# Altium footprint library MyLibs_Mux_Demux.PcbLib: 1 footprints
Each footprint in its own frame and in the unit in brackets; x right, y up, seen from the top. Pads: shape width x height; smd on the part's side, far side on the other; paste and mask are expansions set on the pad; w line width, h text height; cw(c..) or ccw(c..) is an arc to the next point about the centre after c.
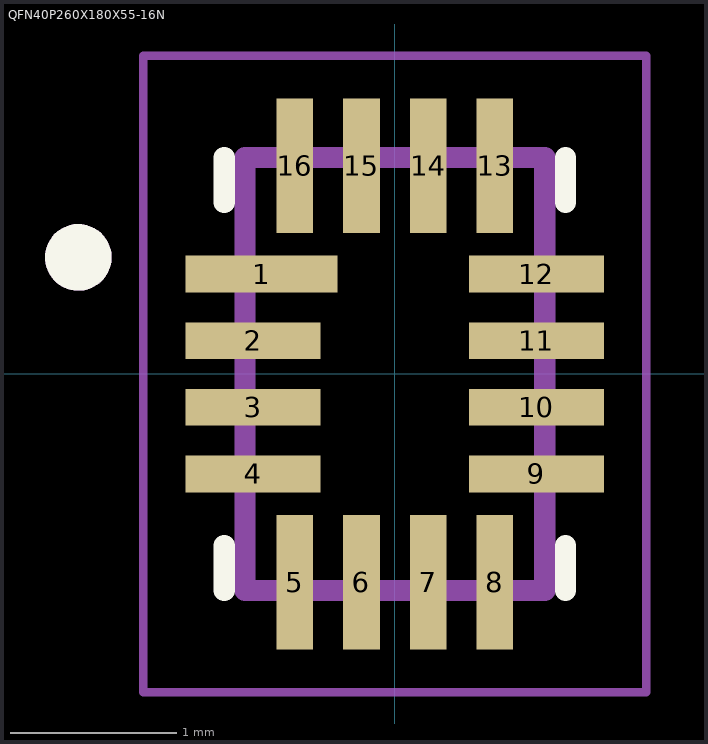
[diagram p0: the footprint, top view; thin cyan lines are the x and y axes]

## QFN40P260X180X55-16N [mm]
pads (16):
  rect 0.91x0.22 smd: 1(-0.8,0.6)
  rect 0.81x0.22 smd: 2(-0.85,0.2) 3(-0.85,-0.2) 4(-0.85,-0.6) 9(0.85,-0.6) 10(0.85,-0.2) 11(0.85,0.2) 12(0.85,0.6)
  rect 0.22x0.81 smd: 5(-0.6,-1.25) 6(-0.2,-1.25) 7(0.2,-1.25) 8(0.6,-1.25) 13(0.6,1.25) 14(0.2,1.25) 15(-0.2,1.25) 16(-0.6,1.25)
Top Overlay:
  circle w0.2: c-1.9,0.7 r0.1
  lines w0.127: -1.024,-1.3 -1.024,-1.03 ; -1.024,1.03 -1.024,1.3 ; 1.024,-1.3 1.024,-1.03 ; 1.024,1.03 1.024,1.3
Top Designator:
  text ".Designator" at 3.716,0.267 h0.8
Mechanical 13:
  circle w0.2: c-1.9,0.7 r0.1
  lines w0.127: -0.9,-1.3 0.9,-1.3 0.9,1.3 -0.9,1.3 -0.9,-1.3
Mechanical 15:
  lines w0.05: -1.51,-1.91 1.51,-1.91 1.51,1.91 -1.51,1.91 -1.51,-1.91
3D body: height 0.25, standoff 0, extent -0.889,-1.27 0.889,1.27